# Altium footprint library Tank.PcbLib: 288 footprints (part 1 of 18)
Each footprint in its own frame and in the unit in brackets; x right, y up, seen from the top. Pads: shape width x height; smd on the part's side, far side on the other; paste and mask are expansions set on the pad; w line width, h text height; cw(c..) or ccw(c..) is an arc to the next point about the centre after c.
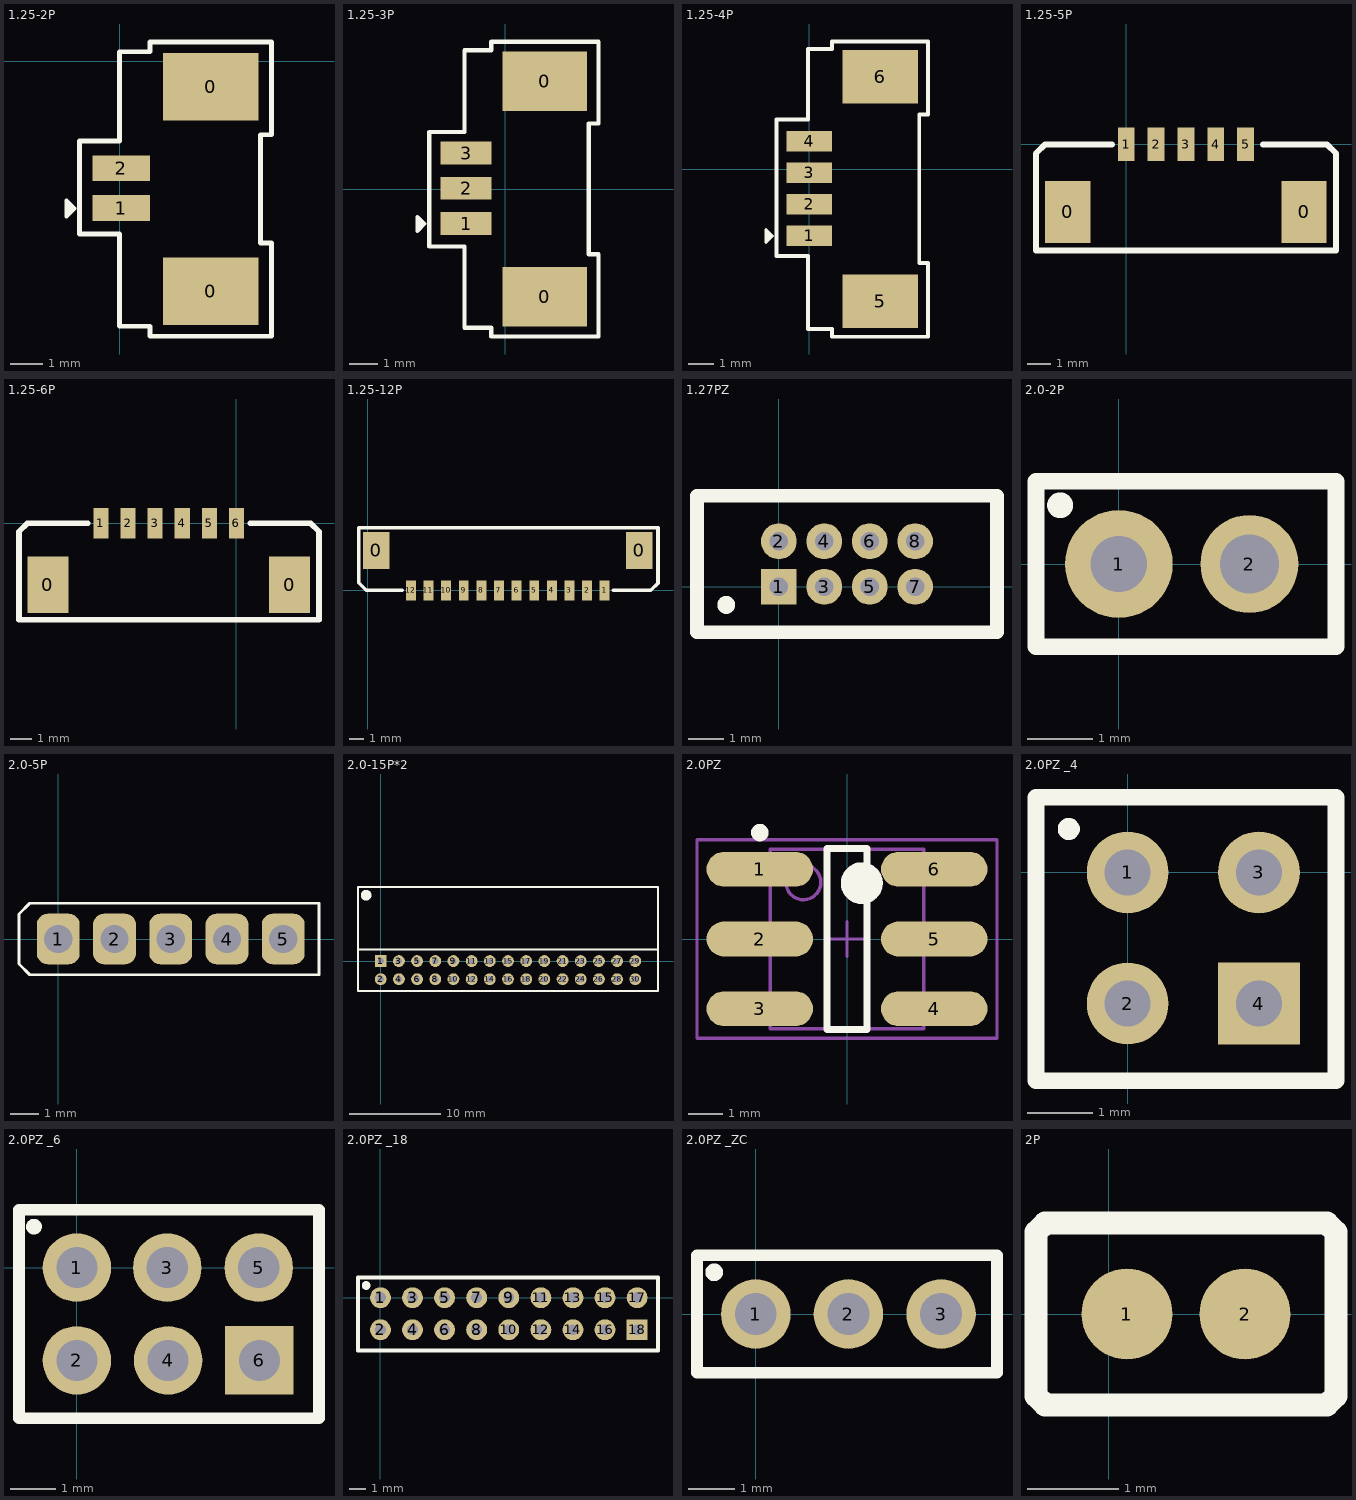
[diagram p0: the footprints below, top view; thin cyan lines are the x and y axes]

## 1.25-2P [mil]
pads (4):
  rect 118x83 smd: 0(112.44,-283.46) 0(112.44,-31.5)
  rect 71x32 smd: 1(2.2,-181.1) 2(2.2,-131.89)
Top Overlay:
  lines w5: -61.7,-185.6 -61.7,-179.6 ; -65.7,-191.6 -65.7,-189.6 -57.7,-181.6 -63.7,-175.6 -63.7,-185.6 -59.7,-181.6 ; -65.7,-191.6 -55.7,-181.6 -65.7,-171.6 -65.7,-191.6 ; -61.7,-179.6 -59.7,-179.6 -59.7,-181.6 ; -61.7,-179.6 -59.7,-181.6 ; -61.7,-179.6 -63.7,-179.6 -63.7,-181.6 -61.7,-183.6 -59.7,-181.6
  lines w6: -49.3,-213.1 0,-213.1 0,-326.77 37.4,-326.77 37.4,-339 187.4,-339 187.4,-224 173.6,-224 173.6,-90.55 187.4,-90.55 187.4,23.62 37.4,23.62 37.4,11.81 0,11.81 0,-98.43 -49.3,-98.43 -49.3,-213.1

## 1.25-3P [mm]
pads (5):
  rect 2.997x2.108 smd: 0(1.4,-3.825) 0(1.4,3.825)
  rect 1.803x0.813 smd: 1(-1.4,-1.225) 2(-1.4,0.025) 3(-1.4,1.275)
Top Overlay:
  lines w0.127: -3.023,-1.339 -3.023,-1.187 ; -3.125,-1.492 -3.125,-1.441 -2.921,-1.238 -3.074,-1.085 -3.074,-1.339 -2.972,-1.238 ; -3.125,-1.492 -2.871,-1.238 -3.125,-0.984 -3.125,-1.492 ; -3.023,-1.187 -2.972,-1.187 -2.972,-1.238 ; -3.023,-1.187 -2.972,-1.238 ; -3.023,-1.187 -3.074,-1.187 -3.074,-1.238 -3.023,-1.288 -2.972,-1.238
  lines w0.152: -2.708,-2.038 -1.456,-2.038 -1.456,-4.925 -0.506,-4.925 -0.506,-5.236 3.304,-5.236 3.304,-2.315 2.954,-2.315 2.954,2.325 3.304,2.325 3.304,5.225 -0.506,5.225 -0.506,4.925 -1.456,4.925 -1.456,2.025 -2.708,2.025 -2.708,-2.038

## 1.25-4P [mil]
pads (6):
  rect 71x32 smd: 1(0,-103.43) 2(0,-54.21) 3(0,-5) 4(0,44.21)
  rect 118x83 smd: 5(110.24,-205.79) 6(110.24,144.61)
Top Overlay:
  lines w5: -63.9,-107.93 -63.9,-101.93 ; -67.9,-113.93 -67.9,-93.93 -57.9,-103.93 -67.9,-113.93 ; -67.9,-113.93 -67.9,-111.93 -59.9,-103.93 -65.9,-97.93 -65.9,-107.93 -61.9,-103.93 ; -63.9,-101.93 -65.9,-101.93 -65.9,-103.93 -63.9,-105.93 -61.9,-103.93 ; -63.9,-101.93 -61.9,-103.93 ; -63.9,-101.93 -61.9,-101.93 -61.9,-103.93
  lines w6: -51.5,-135.43 -51.5,77.68 -2.2,77.68 -2.2,187.91 35.2,187.91 35.2,199.72 185.2,199.72 185.2,85.55 171.4,85.55 171.4,-146.33 185.2,-146.33 185.2,-261.33 35.2,-261.33 35.2,-249.09 -2.2,-249.09 -2.2,-135.43 -51.5,-135.43

## 1.25-5P [mm]
pads (7):
  rect 1.9x2.6 smd: 0(-2.45,-2.835) 0(7.45,-2.835)
  rect 0.7x1.4 smd: 1(0,0) 2(1.25,0) 3(2.5,0) 4(3.75,0) 5(5,0)
Top Overlay:
  lines w0.254: -0.608,0 -3.402,0 -3.783,-0.381 -3.783,-4.445 8.79,-4.445 8.79,-0.381 8.409,0 5.742,0

## 1.25-6P [mm]
pads (8):
  rect 1.9x2.6 smd: 0(-8.7,-2.835) 0(2.45,-2.835)
  rect 0.7x1.4 smd: 1(-6.25,0) 2(-5,0) 3(-3.75,0) 4(-2.5,0) 5(-1.25,0) 6(0,0)
Top Overlay:
  lines w0.254: -6.858,0 -9.652,0 -10.033,-0.381 -10.033,-4.445 3.81,-4.445 3.81,-0.381 3.429,0 0.635,0

## 1.25-12P [mm]
pads (14):
  rect 1.9x2.6 smd: 0(0.591,2.835) 0(19.241,2.835)
  rect 0.7x1.4 smd: 1(16.791,0) 2(15.541,0) 3(14.291,0) 4(13.041,0) 5(11.791,0) 6(10.541,0) 7(9.291,0) 8(8.041,0) 9(6.791,0) 10(5.541,0) 11(4.291,0) 12(3.041,0)
Top Overlay:
  lines w0.254: 2.413,0 -0.127,0 -0.659,0.532 -0.659,4.445 20.574,4.445 20.574,0.508 20.066,0 17.399,0

## 1.27PZ [mm]
pads (8):
  rect 1x1 hole 0.508: 1(0,0)
  round 1 hole 0.508: 2(0,1.27) 3(1.27,0) 4(1.27,1.27) 5(2.54,0) 6(2.54,1.27) 7(3.81,0) 8(3.81,1.27)
Top Overlay:
  circle w0.3: c-1.47,-0.508 r0.1
  lines w0.38: -2.286,-1.27 6.096,-1.27 6.096,2.54 -2.286,2.54 -2.286,-1.27

## 2.0-2P [mil]
pads (2):
  round 65 hole 34: 1(0,0)
  round 59.1 hole 35.44: 2(78.74,0)
Top Overlay:
  circle w10: c-35.43,35.43 r2.81
  lines w10: -50,-50 -50,50 131,50 131,-50 -50,-50

## 2.0-5P [mm]
pads (5):
  rrect50% 1.524x1.8 hole 1: 1(0,0) 2(2,0) 3(4,0) 4(6,0) 5(8,0)
Top Overlay:
  lines w0.1: -1.397,-0.889 -1.016,-1.27 9.271,-1.27 9.271,1.27 5.5,1.27 2.5,1.27 -1.016,1.27 -1.397,0.889 -1.397,-0.889

## 2.0-15P*2 [mm]
pads (30):
  rect 1.301x1.301 hole 0.68: 1(0,0)
  round 1.301 hole 0.68: 2(0,-2) 3(2,0) 4(2,-2) 5(4,0) 6(4,-2) 7(6,0) 8(6,-2) 9(8,0) 10(8,-2) 11(10,0) 12(10,-2) 13(12,0) 14(12,-2) 15(14,0) 16(14,-2) 17(16,0) 18(16,-2) 19(18,0) 20(18,-2) 21(20,0) 22(20,-2) 23(22,0) 24(22,-2) 25(24,0) 26(24,-2) 27(26,0) 28(26,-2) 29(28,0) 30(28,-2)
Top Overlay:
  circle w1: c-1.602,7.239 r0.078
  lines w0.254: -2.5,1.27 30.5,1.27 ; -2.5,-3.302 30.5,-3.302 30.5,8.15 -2.5,8.15 -2.5,-3.302

## 2.0PZ [mm]
height 2.65
pads (6):
  oval 3.05x1 smd: 1(-2.5,2) 2(-2.5,0) 3(-2.5,-2) 4(2.5,-2) 5(2.5,0) 6(2.5,2)
Top Overlay:
  circle w0.6: c0.425,1.6 r0.3
  circle w0.25: c-2.5,3.05 r0.125
  lines w0.2: -0.575,-2.6 0.575,-2.6 0.575,2.6 -0.575,2.6 -0.575,-2.6
Mechanical 13:
  circle w0.1: c-1.25,1.625 r0.5
  lines w0.1: -2.2,-2.575 2.2,-2.575 2.2,2.575 -2.2,2.575 -2.2,-2.575
Mechanical 15:
  lines w0.1: -0.5,0 0.5,0 ; 0,-0.5 0,0.5 ; -4.3,-2.85 4.3,-2.85 4.3,2.85 -4.3,2.85 -4.3,-2.85
3D body: height 2.65, standoff 0.19, extent -2.2,-2.575 2.2,2.575

## 2.0PZ _4 [mm]
pads (4):
  round 1.247 hole 0.7: 1(0,0) 2(0,-2) 3(2,0)
  rect 1.247x1.247 hole 0.7: 4(2,-2)
Top Overlay:
  circle w0.177: c-0.897,0.66 r0.08
  lines w0.254: -1.397,-3.175 -1.397,1.143 3.175,1.143 3.175,-3.175 -1.397,-3.175

## 2.0PZ _6 [mil]
pads (6):
  round 59.1 hole 35.44: 1(0,0) 2(0,-80) 3(78,0) 4(78.74,-80) 5(157,0)
  rect 59.1x59.1 hole 35.44: 6(157.48,-80)
Top Overlay:
  circle w7.87: c-37.06,35.43 r2.84
  lines w10: -50,-130 -50,50 209,50 209,-130 -50,-130

## 2.0PZ _18 [mm]
pads (18):
  round 1.301 hole 0.68: 1(0,0) 2(0,-2) 3(2,0) 4(2,-2) 5(4,0) 6(4,-2) 7(6,0) 8(6,-2) 9(8,0) 10(8,-2) 11(10,0) 12(10,-2) 13(12,0) 14(12,-2) 15(14,0) 16(14,-2) 17(16,0)
  rect 1.301x1.301 hole 0.68: 18(16,-2)
Top Overlay:
  circle w0.381: c-0.889,0.762 r0.078
  lines w0.254: -1.397,-3.302 -1.397,1.27 17.3,1.27 17.3,-3.302 -1.397,-3.302

## 2.0PZ _ZC [mm]
pads (3):
  round 1.501 hole 0.9: 1(0,0) 2(2,0) 3(4,0)
Top Overlay:
  circle w0.225: c-0.9,0.9 r0.078
  lines w0.254: -1.27,-1.27 -1.27,1.27 5.207,1.27 5.207,-1.27 -1.27,-1.27

## 2P [mm]
pads (2):
  round 1 smd: 1(0.2,0) 2(1.5,0)
Top Overlay:
  lines w0.254: -0.8,-0.9 -0.7,-1 2.4,-1 2.5,-0.9 2.5,0.9 2.4,1 -0.7,1 -0.8,0.9 -0.8,-0.9